# EAGLE library part ESP-03 (library X893)
Site1 <http://shop.boxtec.ch/esp8266-wifi-transceiver-module-esp03-p-42188.html> Site2 <https://nurdspace.nl/ESP8266> Site3 <http://playground.boxtec.ch/doku.php/wireless/esp8266> Site4 <http://www.xess.com/blog/esp8266-resources> Site4 <http://www.mikrocontroller.net/articles/ESP8266>
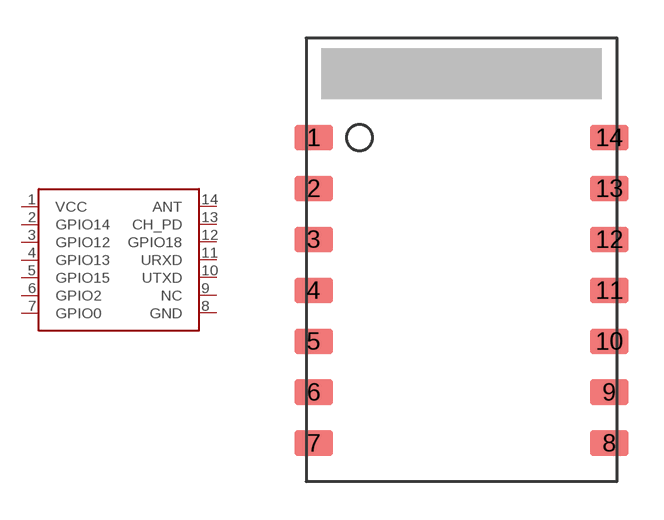
[diagram p233: symbol with the pads of ESP-03; footprint ESP-03]

Designator prefix U

## ESP-03  [ESP-03]
1  VCC  pwr
2  GPIO14
3  GPIO12
4  GPIO13
5  GPIO15
6  GPIO2
7  GPIO0
8  GND  pwr
9  NC
10  UTXD
11  URXD
12  GPIO18
13  CH_PD
14  ANT

## Footprint ESP-03 (pad centres in mm)
smd 1.5 x 1: 1 -5.8,6; 2 -5.8,4; 3 -5.8,2; 4 -5.8,0; 5 -5.8,-2; 6 -5.8,-4; 7 -5.8,-6; 8 5.8,-6; 9 5.8,-4; 10 5.8,-2; 11 5.8,0; 12 5.8,2; 13 5.8,4; 14 5.8,6